# Altium footprint library IHLP3232DZER5R6M11.PcbLib: 1 footprints
Each footprint in its own frame and in the unit in brackets; x right, y up, seen from the top. Pads: shape width x height; smd on the part's side, far side on the other; paste and mask are expansions set on the pad; w line width, h text height; cw(c..) or ccw(c..) is an arc to the next point about the centre after c.
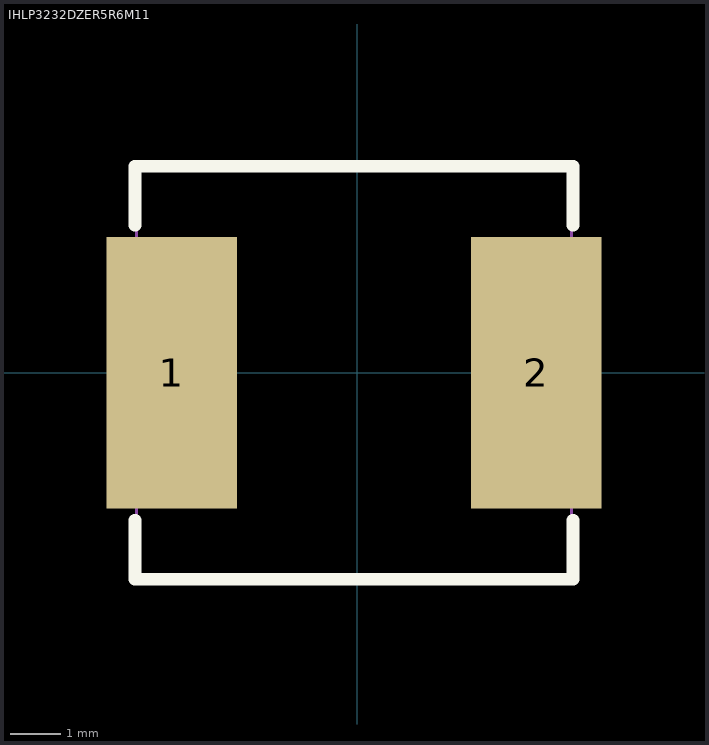
[diagram p0: the footprint, top view; thin cyan lines are the x and y axes]

## IHLP3232DZER5R6M11 [mm]
pads (2):
  rect 2.6x5.4 smd: 1(-3.684,0) 2(3.556,0)
Top Overlay:
  lines w0.254: -4.414,-2.931 -4.414,-4.1 4.286,-4.1 4.286,-2.931 ; -4.414,2.931 -4.414,4.1 4.286,4.1 4.286,2.931
Mechanical 15:
  region: -4.384,2.54 -3.012,2.54 -3.012,-2.54 -4.384,-2.54
  region: 2.884,2.54 4.256,2.54 4.256,-2.54 2.884,-2.54
  region: -4.324,-4.09 -4.324,-4.115 -4.359,-4.15 -4.409,-4.15 -4.444,-4.115 -4.444,-4.09 -4.444,-4.065 -4.409,-4.03 -4.359,-4.03 -4.324,-4.065 -4.324,-4.09
  lines w0.051: -4.384,-4.09 -4.384,4.09 4.256,4.09 4.256,-4.09 -4.384,-4.09